# EAGLE library part DRV8835 (library Alberto)
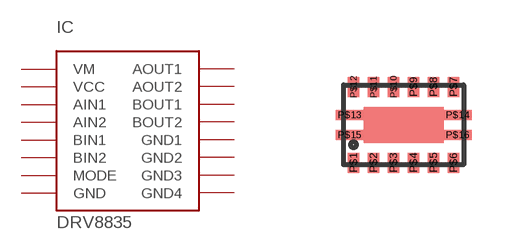
[diagram p0: symbol with the pads of WSON-DSS; footprint WSON-DSS]

Designator prefix IC

## DRV8835  [WSON-DSS]
P$1  VM
P$2  AOUT1
P$3  AOUT2
P$4  BOUT1
P$5  BOUT2
P$6  GND
P$7  BIN2
P$8  BIN1
P$9  AIN2
P$10  AIN1
P$11  MODE
P$12  VCC
P$13  GND1
P$14  GND2
P$15  GND3
P$16  GND4

## Footprint WSON-DSS (pad centres in mm)
smd 0.28 x 0.5: P$1 -1.25,-0.95; P$2 -0.75,-0.95; P$3 -0.25,-0.95; P$4 0.25,-0.95; P$5 0.75,-0.95; P$6 1.25,-0.95; P$7 1.25,0.95; P$8 0.75,0.95; P$9 0.25,0.95; P$10 -0.25,0.95; P$11 -0.75,0.95; P$12 -1.25,0.95
smd 0.7 x 0.25: P$13 -1.35,0.25; P$14 1.35,0.25; P$15 -1.35,-0.25; P$16 1.35,-0.25